# Altium schematic symbol library DEOP2026.SchLib: 8 symbols
Pins are listed as number, name and electrical type; pins without a type are passive.

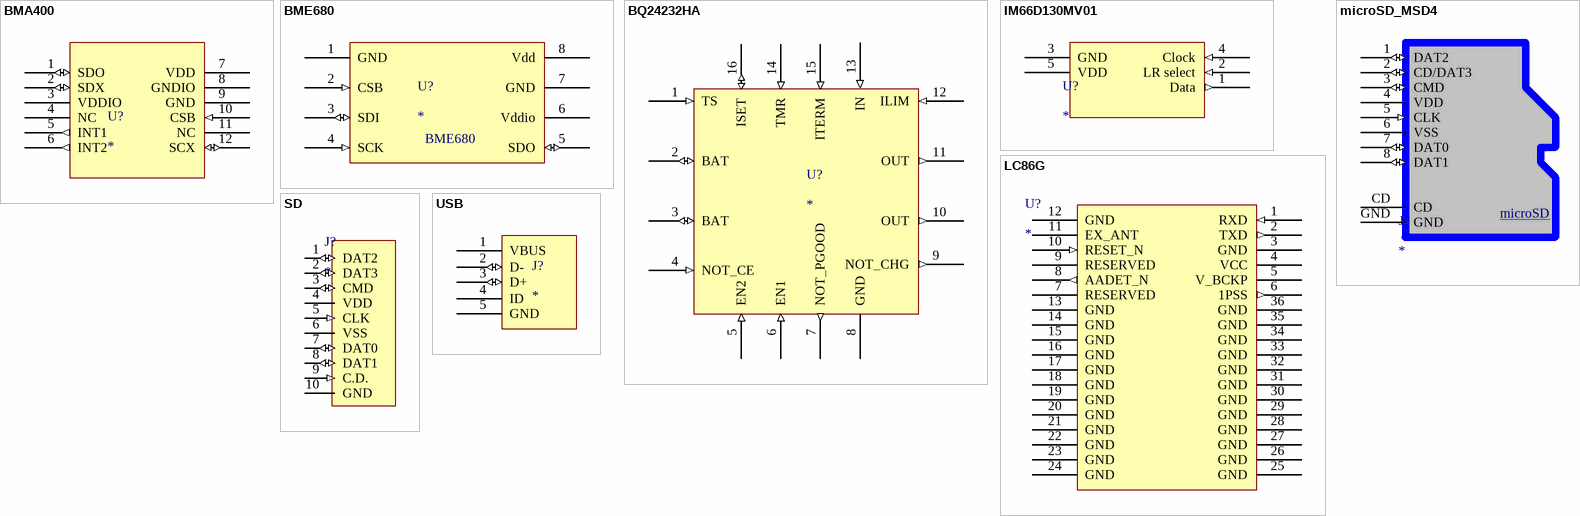
[diagram p0: symbols BMA400 to USB]

## BMA400
designator U?
footprint LGA-12
pins: 1 SDO (io), 2 SDX (io), 3 VDDIO (power), 4 NC, 5 INT1 (out), 6 INT2 (out), 7 VDD (power), 8 GNDIO (power), 9 GND (power), 10 CSB (in), 11 NC, 12 SCX (io)

## BME680
designator U?
footprint DIP8
pins: 1 GND (power), 2 CSB (in), 3 SDI (io), 4 SCK (in), 5 SDO (io), 6 Vddio (power), 7 GND (power), 8 Vdd (power)

## BQ24232HA
designator U?
USB-Friendly Lithium-Ion Battery Charger and Power-Path Management IC; ComponentLink1Description: New link; ComponentLink1URL: https://www.mouser.es/ProductDetail/Texas-Instruments/BQ24232HARGTR?qs=zEmsApcVOkUhMNqBs2s9Ww%3D%3D
footprint QFN50P300X300X100_HS-17N (QFN, 16-Leads, Body 3,00x3,00mm, Pitch 0,50mm, Thermal Pad 1,68x1,68mm, IPC Medium Density)
pins: 1 TS (in), 2 BAT (io), 3 BAT (io), 4 NOT_CE (in), 5 EN2 (in), 6 EN1 (in), 7 NOT_PGOOD (out), 8 GND (power), 9 NOT_CHG (out), 10 OUT (out), 11 OUT (out), 12 ILIM (in), 13 IN (in), 14 TMR (in), 15 ITERM (in), 16 ISET (io)

## IM66D130MV01
designator U?
footprint IM66D130MV01
pins: 1 Data (out), 2 LR select (in), 3 GND (power), 4 Clock (in), 5 VDD (power)

## LC86G
designator U?
footprint LD86G
pins: 1 RXD (in), 2 TXD (out), 3 GND (power), 4 VCC (power), 5 V_BCKP (power), 6 1PSS (out), 7 RESERVED, 8 AADET_N (out), 9 RESERVED, 10 RESET_N (in), 11 EX_ANT, 12 GND (power), 13 GND (power), 14 GND (power), 15 GND (power), 16 GND (power), 17 GND (power), 18 GND (power), 19 GND (power), 20 GND (power), 21 GND (power), 22 GND (power), 23 GND (power), 24 GND (power), 25 GND (power), 26 GND (power), 27 GND (power), 28 GND (power), 29 GND (power), 30 GND (power), 31 GND (power), 32 GND (power), 33 GND (power), 34 GND (power), 35 GND (power), 36 GND (power)

## microSD_MSD4
designator J?
footprint ConnectorMicroSD_msd4
pins: 1 DAT2 (io) "Data line (bit 2)", 2 CD/DAT3 (io) "Card detect / Data line (bit 3)", 3 CMD (io) "Command / Response", 4 VDD (power), 5 CLK (in), 6 VSS (power), 7 DAT0 (io), 8 DAT1 (io), CD (oc) "Card detector swtich", GND (power)
text: microSD

## SD
designator J?
footprint ConnectorMicroSD
pins: 1 DAT2 (io), 2 DAT3 (io), 3 CMD (io), 4 VDD (power), 5 CLK (in), 6 VSS (power), 7 DAT0 (io), 8 DAT1 (io), 9 C.D. (in), 10 GND (power)

## USB
designator J?
footprint ConnectorMicroUSB
pins: 1 VBUS (power), 2 D- (io), 3 D+ (io), 4 ID, 5 GND (power)